# Altium footprint library Chip_kz85.PcbLib: 314 footprints (part 9 of 20)
Each footprint in its own frame and in the unit in brackets; x right, y up, seen from the top. Pads: shape width x height; smd on the part's side, far side on the other; paste and mask are expansions set on the pad; w line width, h text height; cw(c..) or ccw(c..) is an arc to the next point about the centre after c.
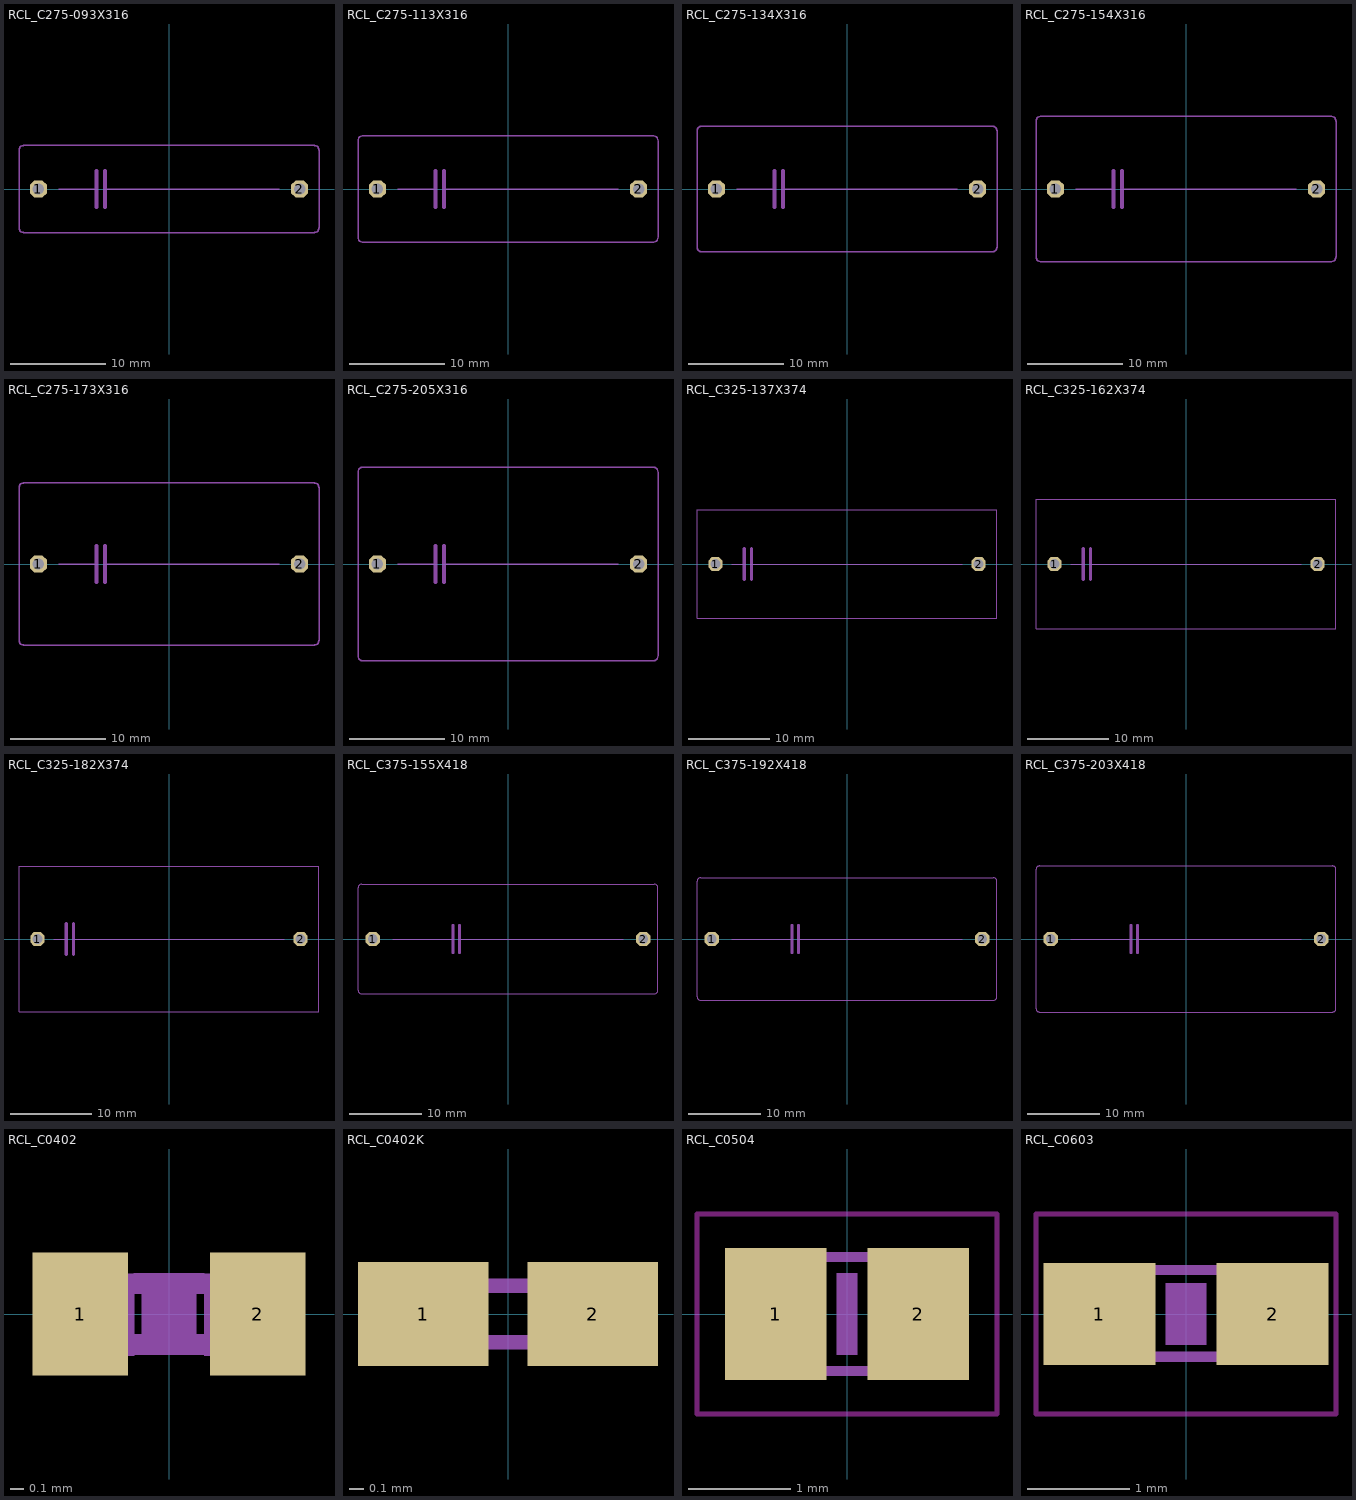
[diagram p8: the footprints below, top view; thin cyan lines are the x and y axes]

## RCL_C275-093X316 [mil]
pads (2):
  oct 70.5x70.5 / inner round 65.13 / far side oct 70.5x70.5 hole 47: 1(-540,0) 2(540,0)
Mechanical 7:
  lines w6: -455,0 -300,0 ; -265,0 455,0 ; -620,-160 ccw(c-600,-160) -600,-180 600,-180 ccw(c600,-160) 620,-160 620,160 ccw(c600,160) 600,180 -600,180 ccw(c-600,160) -620,160 -620,-160
  lines w16: -300,-75 -300,0 -300,75 ; -265,-75 -265,0 -265,75

## RCL_C275-113X316 [mil]
pads (2):
  oct 70.5x70.5 / inner round 65.13 / far side oct 70.5x70.5 hole 47: 1(-540,0) 2(540,0)
Mechanical 7:
  lines w6: -455,0 -300,0 ; -265,0 455,0 ; -620,-200 ccw(c-600,-200) -600,-220 600,-220 ccw(c600,-200) 620,-200 620,200 ccw(c600,200) 600,220 -600,220 ccw(c-600,200) -620,200 -620,-200
  lines w16: -300,-75 -300,0 -300,75 ; -265,-75 -265,0 -265,75

## RCL_C275-134X316 [mil]
pads (2):
  oct 70.5x70.5 / inner round 65.13 / far side oct 70.5x70.5 hole 47: 1(-540,0) 2(540,0)
Mechanical 7:
  lines w6: -455,0 -300,0 ; -265,0 455,0 ; -620,-240 ccw(c-600,-240) -600,-260 600,-260 ccw(c600,-240) 620,-240 620,240 ccw(c600,240) 600,260 -600,260 ccw(c-600,240) -620,240 -620,-240
  lines w16: -300,-75 -300,0 -300,75 ; -265,-75 -265,0 -265,75

## RCL_C275-154X316 [mil]
pads (2):
  oct 70.5x70.5 / inner round 65.13 / far side oct 70.5x70.5 hole 47: 1(-540,0) 2(540,0)
Mechanical 7:
  lines w6: -455,0 -300,0 ; -265,0 455,0 ; -620,-280 ccw(c-600,-280) -600,-300 600,-300 ccw(c600,-280) 620,-280 620,280 ccw(c600,280) 600,300 -600,300 ccw(c-600,280) -620,280 -620,-280
  lines w16: -300,-75 -300,0 -300,75 ; -265,-75 -265,0 -265,75

## RCL_C275-173X316 [mil]
pads (2):
  oct 70.5x70.5 / inner round 65.13 / far side oct 70.5x70.5 hole 47: 1(-540,0) 2(540,0)
Mechanical 7:
  lines w6: -455,0 -300,0 ; -265,0 455,0 ; -620,-315 ccw(c-600,-315) -600,-335 600,-335 ccw(c600,-315) 620,-315 620,315 ccw(c600,315) 600,335 -600,335 ccw(c-600,315) -620,315 -620,-315
  lines w16: -300,-75 -300,0 -300,75 ; -265,-75 -265,0 -265,75

## RCL_C275-205X316 [mil]
pads (2):
  oct 70.5x70.5 / inner round 65.13 / far side oct 70.5x70.5 hole 47: 1(-540,0) 2(540,0)
Mechanical 7:
  lines w6: -455,0 -300,0 ; -265,0 455,0 ; -620,-380 ccw(c-600,-380) -600,-400 600,-400 ccw(c600,-380) 620,-380 620,380 ccw(c600,380) 600,400 -600,400 ccw(c-600,380) -620,380 -620,-380
  lines w16: -300,-75 -300,0 -300,75 ; -265,-75 -265,0 -265,75

## RCL_C325-137X374 [mil]
pads (2):
  oct 70.5x70.5 / inner round 65.13 / far side oct 70.5x70.5 hole 47: 1(-640,0) 2(640,0)
Mechanical 7:
  lines w6: -562,0 -500,0 ; -465,0 562,0 ; -730,-265 -730,265 730,265 730,-265 -730,-265
  lines w16: -500,-75 -500,0 -500,75 ; -465,-75 -465,0 -465,75

## RCL_C325-162X374 [mil]
pads (2):
  oct 70.5x70.5 / inner round 65.13 / far side oct 70.5x70.5 hole 47: 1(-640,0) 2(640,0)
Mechanical 7:
  lines w6: -562,0 -500,0 ; -465,0 562,0 ; -730,-315 -730,315 730,315 730,-315 -730,-315
  lines w16: -500,-75 -500,0 -500,75 ; -465,-75 -465,0 -465,75

## RCL_C325-182X374 [mil]
pads (2):
  oct 70.5x70.5 / inner round 65.13 / far side oct 70.5x70.5 hole 47: 1(-640,0) 2(640,0)
Mechanical 7:
  lines w6: -562,0 -500,0 ; -465,0 562,0 ; -730,-355 -730,355 730,355 730,-355 -730,-355
  lines w16: -500,-75 -500,0 -500,75 ; -465,-75 -465,0 -465,75

## RCL_C375-155X418 [mil]
pads (2):
  oct 78x78 / inner round 72.06 / far side oct 78x78 hole 52: 1(-740,0) 2(740,0)
Mechanical 7:
  lines w6: -630,0 -300,0 ; -265,0 630,0 ; -820,-280 ccw(c-800,-280) -800,-300 800,-300 ccw(c800,-280) 820,-280 820,280 ccw(c800,280) 800,300 -800,300 ccw(c-800,280) -820,280 -820,-280
  lines w16: -300,-75 -300,0 -300,75 ; -265,-75 -265,0 -265,75

## RCL_C375-192X418 [mil]
pads (2):
  oct 78x78 / inner round 72.06 / far side oct 78x78 hole 52: 1(-740,0) 2(740,0)
Mechanical 7:
  lines w6: -630,0 -300,0 ; -265,0 630,0 ; -820,-315 ccw(c-800,-315) -800,-335 800,-335 ccw(c800,-315) 820,-315 820,315 ccw(c800,315) 800,335 -800,335 ccw(c-800,315) -820,315 -820,-315
  lines w16: -300,-75 -300,0 -300,75 ; -265,-75 -265,0 -265,75

## RCL_C375-203X418 [mil]
pads (2):
  oct 78x78 / inner round 72.06 / far side oct 78x78 hole 52: 1(-740,0) 2(740,0)
Mechanical 7:
  lines w6: -630,0 -300,0 ; -265,0 630,0 ; -820,-380 ccw(c-800,-380) -800,-400 800,-400 ccw(c800,-380) 820,-380 820,380 ccw(c800,380) 800,400 -800,400 ccw(c-800,380) -820,380 -820,-380
  lines w16: -300,-75 -300,0 -300,75 ; -265,-75 -265,0 -265,75

## RCL_C0402 [mm]
pads (2):
  rect 0.7x0.9 smd: 1(-0.65,0) 2(0.65,0)
Mechanical 3:
  region: 0.259,-0.305 0.259,0.295 0.559,0.295 0.559,-0.305
  region: -0.554,-0.305 -0.554,0.295 -0.254,0.295 -0.254,-0.305
  lines w0.152: -0.245,-0.224 0.245,-0.224 ; -0.245,0.224 0.245,0.224
Mechanical 11:
  region: -0.2,-0.3 -0.2,0.3 0.2,0.3 0.2,-0.3

## RCL_C0402K [mil]
pads (2):
  rect 36.42x29.13 smd: 1(-23.62,0) 2(23.62,0)
Mechanical 3:
  region: -19.69,-9.84 -19.69,9.84 -8.86,9.84 -8.86,-9.84
  region: 8.86,-9.84 8.86,9.84 19.69,9.84 19.69,-9.84
  lines w4: -16.73,-7.87 16.73,-7.87 ; -16.73,7.87 16.73,7.87

## RCL_C0504 [mm]
pads (2):
  rect 1x1.3 smd: 1(-0.7,0) 2(0.7,0)
Top Layer keep-out:
  lines w0.051: -1.473,-0.983 1.473,-0.983 1.473,0.983 -1.473,0.983 -1.473,-0.983
Mechanical 3:
  region: -0.66,-0.622 -0.66,0.628 -0.28,0.628 -0.28,-0.622
  region: 0.279,-0.622 0.279,0.628 0.659,0.628 0.659,-0.622
  lines w0.102: -0.294,-0.559 0.294,-0.559 ; -0.294,0.559 0.294,0.559
Mechanical 11:
  region: -0.1,-0.4 -0.1,0.4 0.1,0.4 0.1,-0.4

## RCL_C0603 [mm]
pads (2):
  rect 1.1x1 smd: 1(-0.85,0) 2(0.85,0)
Top Layer keep-out:
  lines w0.051: -1.473,-0.983 1.473,-0.983 1.473,0.983 -1.473,0.983 -1.473,-0.983
Mechanical 3:
  region: -0.838,-0.47 -0.838,0.48 -0.338,0.48 -0.338,-0.47
  region: 0.33,-0.47 0.33,0.48 0.83,0.48 0.83,-0.47
  lines w0.102: -0.356,-0.419 0.356,-0.419 ; -0.356,0.432 0.356,0.432
Mechanical 11:
  region: -0.2,-0.3 -0.2,0.3 0.2,0.3 0.2,-0.3